# Altium footprint library MA600_Angle_Encoder.PcbLib: 9 footprints
Each footprint in its own frame and in the unit in brackets; x right, y up, seen from the top. Pads: shape width x height; smd on the part's side, far side on the other; paste and mask are expansions set on the pad; w line width, h text height; cw(c..) or ccw(c..) is an arc to the next point about the centre after c.
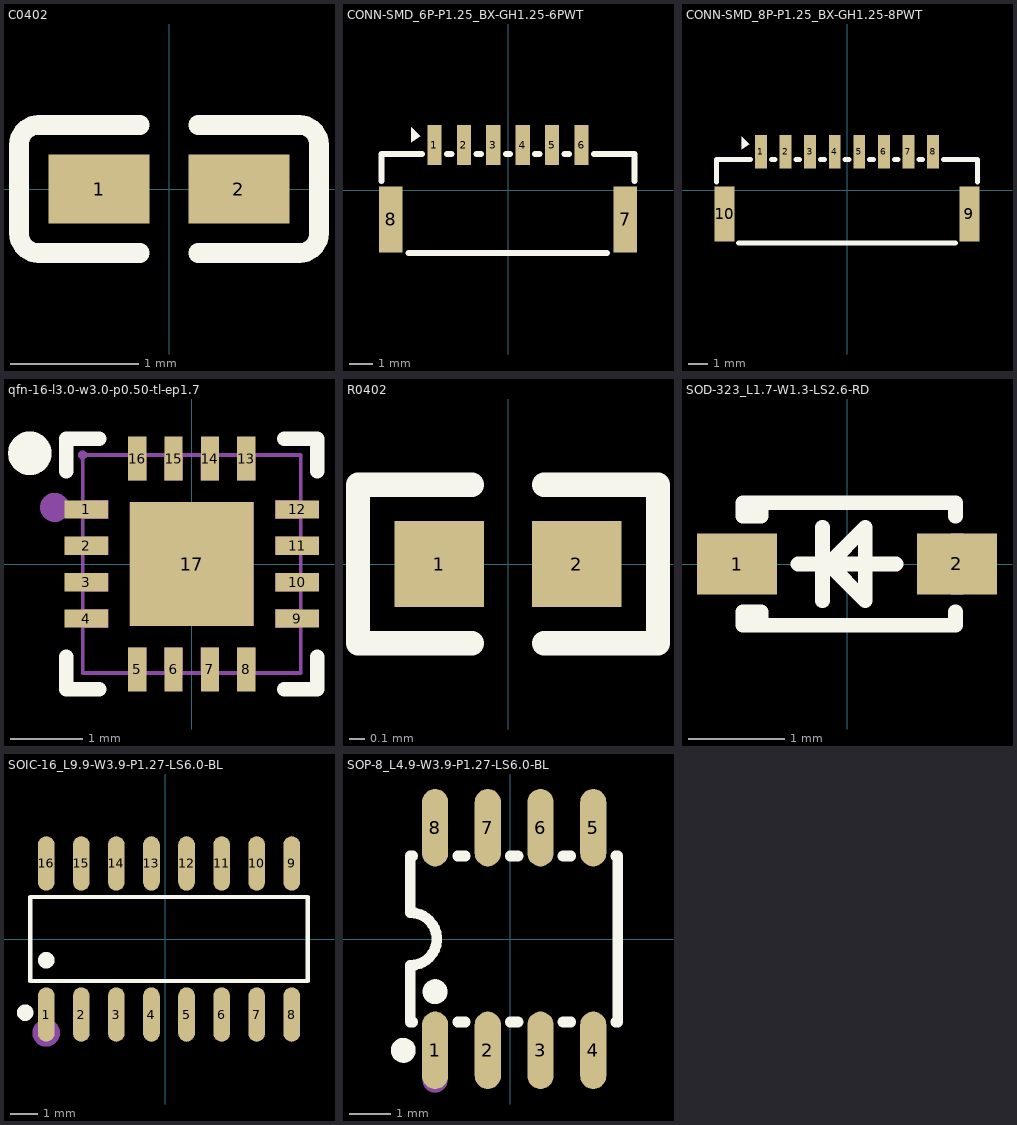
[diagram p0: the footprints below, top view; thin cyan lines are the x and y axes]

## C0402 [mm]
pads (2):
  rect 0.79x0.54 smd paste-100 mask+0.051: 1(-0.545,0) 2(0.545,0)
Top Overlay:
  lines w0.152: -0.226,-0.499 -1.016,-0.499 cw(c-1.016,-0.346) -1.169,-0.346 -1.169,0.346 cw(c-1.016,0.346) -1.016,0.499 -0.226,0.499 ; 0.226,-0.499 1.016,-0.499 ccw(c1.016,-0.346) 1.169,-0.346 1.169,0.346 ccw(c1.016,0.346) 1.016,0.499 0.226,0.499
Top Paste:
  region: 0.78,0.225 0.78,-0.225 0.73,-0.275 0.25,-0.275 0.18,-0.225 0.18,0.225 0.25,0.275 0.73,0.275
  region: -0.18,0.225 -0.18,-0.225 -0.25,-0.275 -0.73,-0.275 -0.78,-0.225 -0.78,0.225 -0.73,0.275 -0.25,0.275

## CONN-SMD_6P-P1.25_BX-GH1.25-6PWT [mm]
pads (8):
  rect 0.6x1.7 smd paste+0 mask+0.05: 1(-3.126,1.925) 2(-1.876,1.925) 3(-0.626,1.925) 4(0.624,1.925) 5(1.874,1.925) 6(3.124,1.925)
  rect 1x2.8 smd paste+0 mask+0.05: 7(4.974,-1.225) 8(-4.976,-1.225)
Top Overlay:
  region: -3.724,2.306 -4.105,2.687 -4.105,2.052
  lines w0.254: -5.375,0.406 -5.375,1.544 -3.657,1.544 ; -4.232,-2.647 4.2,-2.647 ; -2.594,1.544 -2.407,1.544 ; -1.344,1.544 -1.157,1.544 ; -0.094,1.544 0.093,1.544 ; 1.156,1.544 1.343,1.544 ; 2.406,1.544 2.593,1.544 ; 3.657,1.543 5.375,1.543 5.375,0.406 ; 4.905,1.544 5.093,1.544 ; 3.655,1.544 3.843,1.544 3.656,1.544
Mechanical 15:
  region: -3.724,2.306 -4.105,2.687 -4.105,2.052

## CONN-SMD_8P-P1.25_BX-GH1.25-8PWT [mm]
pads (10):
  rect 0.6x1.7 smd paste+0 mask+0.05: 1(-4.375,1.95) 2(-3.125,1.95) 3(-1.875,1.95) 4(-0.625,1.95) 5(0.625,1.95) 6(1.875,1.95) 7(3.125,1.95) 8(4.375,1.95)
  rect 1x2.8 smd paste+0 mask+0.05: 9(6.225,-1.2) 10(-6.225,-1.2)
Top Overlay:
  region: -4.973,2.331 -5.354,2.712 -5.354,2.077
  lines w0.254: -6.624,0.431 -6.624,1.569 -4.906,1.569 ; -5.506,-2.673 5.506,-2.673 ; -3.844,1.569 -3.656,1.569 ; -2.594,1.569 -2.406,1.569 ; -1.344,1.569 -1.156,1.569 ; -0.094,1.569 0.094,1.569 ; 1.156,1.569 1.344,1.569 ; 2.406,1.569 2.594,1.569 ; 3.656,1.569 3.844,1.569 ; 4.906,1.569 6.624,1.569 6.624,0.431
Mechanical 15:
  region: -4.973,2.331 -5.354,2.712 -5.354,2.077

## PCBComponent_1 [mm]

## qfn-16-l3.0-w3.0-p0.50-tl-ep1.7 [mm]
height 9.4
pads (17):
  rect 0.6x0.25 smd: 1(-1.45,0.75) 2(-1.45,0.25) 3(-1.45,-0.25) 4(-1.45,-0.75) 9(1.45,-0.75) 10(1.45,-0.25) 11(1.45,0.25) 12(1.45,0.75)
  rect 0.25x0.6 smd: 5(-0.75,-1.45) 6(-0.25,-1.45) 7(0.25,-1.45) 8(0.75,-1.45) 13(0.75,1.45) 14(0.25,1.45) 15(-0.25,1.45) 16(-0.75,1.45)
  rect 1.7x1.7 smd: 17(0,0)
Top Overlay:
  lines w0.2: -1.725,-1.275 -1.725,-1.725 -1.275,-1.725 ; -1.725,1.275 -1.725,1.725 -1.275,1.725 ; 1.275,-1.725 1.725,-1.725 1.725,-1.275 ; 1.275,1.725 1.725,1.725 1.725,1.275
  lines w0.3: -2.075,1.521 cw(c-2.225,1.523) -2.375,1.523 cw(c-2.225,1.523) -2.075,1.524
Mechanical 6:
  circle w0.2: c-1.885,0.778 r0.1
Mechanical 15:
  region: -0.875,1.491 -0.625,1.491 -0.625,1.151 -0.875,1.151
  region: -0.85,0.85 0.85,0.85 0.85,-0.85 -0.85,-0.85
  region: -0.375,1.491 -0.125,1.491 -0.125,1.151 -0.375,1.151
  region: 0.125,1.491 0.375,1.491 0.375,1.151 0.125,1.151
  region: 0.625,1.491 0.875,1.491 0.875,1.151 0.625,1.151
  region: 1.491,0.875 1.491,0.625 1.151,0.625 1.151,0.875
  region: 1.491,0.375 1.491,0.125 1.151,0.125 1.151,0.375
  region: 1.491,-0.125 1.491,-0.375 1.151,-0.375 1.151,-0.125
  region: 1.491,-0.625 1.491,-0.875 1.151,-0.875 1.151,-0.625
  region: 0.875,-1.491 0.625,-1.491 0.625,-1.151 0.875,-1.151
  region: 0.375,-1.491 0.125,-1.491 0.125,-1.151 0.375,-1.151
  region: -0.125,-1.491 -0.375,-1.491 -0.375,-1.151 -0.125,-1.151
  region: -0.625,-1.491 -0.875,-1.491 -0.875,-1.151 -0.625,-1.151
  region: -1.491,-0.875 -1.491,-0.625 -1.151,-0.625 -1.151,-0.875
  region: -1.491,-0.375 -1.491,-0.125 -1.151,-0.125 -1.151,-0.375
  region: -1.491,0.125 -1.491,0.375 -1.151,0.375 -1.151,0.125
  region: -1.491,0.625 -1.491,0.875 -1.151,0.875 -1.151,0.625
  region: -1.439,1.5 -1.44,1.525 -1.475,1.559 -1.524,1.559 -1.559,1.525 -1.559,1.5 -1.559,1.475 -1.524,1.44 -1.475,1.44 -1.44,1.475
  lines w0.051: -1.5,-1.5 1.5,-1.5 1.5,1.5 -1.5,1.5 -1.5,-1.5
3D body "QFN-16_MA600_MNP.step": height 0.94, standoff 0, extent -1.549,-1.549 1.549,1.549

## R0402 [mm]
pads (2):
  rect 0.566x0.54 smd paste-100 mask+0.051: 1(-0.433,0) 2(0.433,0)
Top Overlay:
  lines w0.152: -0.226,-0.499 -0.944,-0.499 -0.944,0.499 -0.226,0.499 ; 0.226,-0.499 0.944,-0.499 0.944,0.499 0.226,0.499
Top Paste:
  region: -0.135,-0.23 -0.135,0.23 -0.175,0.27 -0.676,0.27 -0.716,0.23 -0.716,-0.23 -0.676,-0.27 -0.175,-0.27
  region: 0.135,-0.23 0.135,0.23 0.175,0.27 0.676,0.27 0.716,0.23 0.716,-0.23 0.676,-0.27 0.175,-0.27

## SOD-323_L1.7-W1.3-LS2.6-RD [mm]
pads (2):
  rect 0.83x0.63 smd paste+0 mask+0.05: 1(-1.14,0) 2(1.14,0)
Top Overlay:
  lines w0.152: -1.003,-0.635 -0.986,-0.635 -0.986,-0.495 ; -0.986,0.495 -0.986,0.635 ; -0.508,0 0.508,0 ; -0.254,-0.381 -0.254,0.381 ; 1.125,-0.495 1.125,-0.635 0.889,-0.635 -0.889,-0.635 ; 1.125,0.495 1.125,0.635 0.889,0.635 -0.889,0.635 ; -0.889,-0.635 -1.079,-0.635 -1.079,-0.495 -0.889,-0.495 ; -0.889,-0.635 -0.889,-0.595 -0.889,-0.495 ; -0.889,-0.495 -0.889,-0.495 ; -0.889,0.635 -1.08,0.635 -1.08,0.495 -0.889,0.495 -0.889,0.595 -0.889,0.635 ; -0.191,0 0.191,-0.381 0.191,0.381 -0.191,0
Mechanical 15:
  region: 0.826,0.064 0.826,-0.064 1.079,-0.064 1.079,-0.318 1.206,-0.318 1.206,-0.064 1.46,-0.064 1.46,0.064 1.206,0.064 1.206,0.318 1.079,0.318 1.079,0.064
  region: -1.46,0.064 -1.46,-0.064 -0.826,-0.064 -0.826,0.064

## SOIC-16_L9.9-W3.9-P1.27-LS6.0-BL [mm]
pads (16):
  oval 0.602x1.971 smd paste+0 mask+0.051: 1(-4.318,-2.736) 2(-3.048,-2.736) 3(-1.778,-2.736) 4(-0.508,-2.736) 5(0.762,-2.736) 6(2.032,-2.736) 7(3.302,-2.736) 8(4.572,-2.736) 9(4.572,2.736) 10(3.302,2.736) 11(2.032,2.736) 12(0.762,2.736) 13(-0.508,2.736) 14(-1.778,2.736) 15(-3.048,2.736) 16(-4.318,2.736)
Top Overlay:
  circle w0.3: c-5.08,-2.667 r0.15
  circle w0.3: c-4.318,-0.769 r0.15
  lines w0.152: -4.899,-1.521 5.154,-1.521 5.154,1.521 -4.899,1.521 -4.899,-1.521
Mechanical 15:
  circle w0.5: c-4.318,-3.4 r0.25

## SOP-8_L4.9-W3.9-P1.27-LS6.0-BL [mm]
pads (8):
  oval 0.63x1.865 smd paste+0 mask+0.051: 1(-1.807,-2.682) 2(-0.537,-2.682) 3(0.733,-2.682) 4(2.003,-2.682) 5(2.003,2.682) 6(0.733,2.682) 7(-0.537,2.682) 8(-1.807,2.682)
Top Overlay:
  circle w0.3: c-2.575,-2.682 r0.15
  circle w0.3: c-1.807,-1.27 r0.15
  lines w0.254: -2.402,0.635 -2.402,2 -2.35,2 ; -2.402,0.635 cw(c-2.402,0) -2.402,-0.635 -2.402,-2 -2.35,-2 ; -1.265,-2 -1.08,-2 ; -1.265,2 -1.08,2 ; 0.005,-2 0.19,-2 ; 0.005,2 0.19,2 ; 1.275,-2 1.46,-2 ; 1.275,2 1.46,2 ; 2.545,2 2.598,2 2.598,-1.947 2.545,-2 2.598,-2
Mechanical 15:
  circle w0.3: c-1.807,-3.4 r0.15